# EAGLE library part MT47H32M16HR (library SamacSys_Parts)
INTEGRATED SILICON SOLUTION (ISSI) - IS43DR16320E-25DBLI - DRAM, 32M X 16BIT, BGA-84 Source: Datasheet <https://componentsearchengine.com/Datasheets/1/IS43DR16320E-25DBLI.pdf>
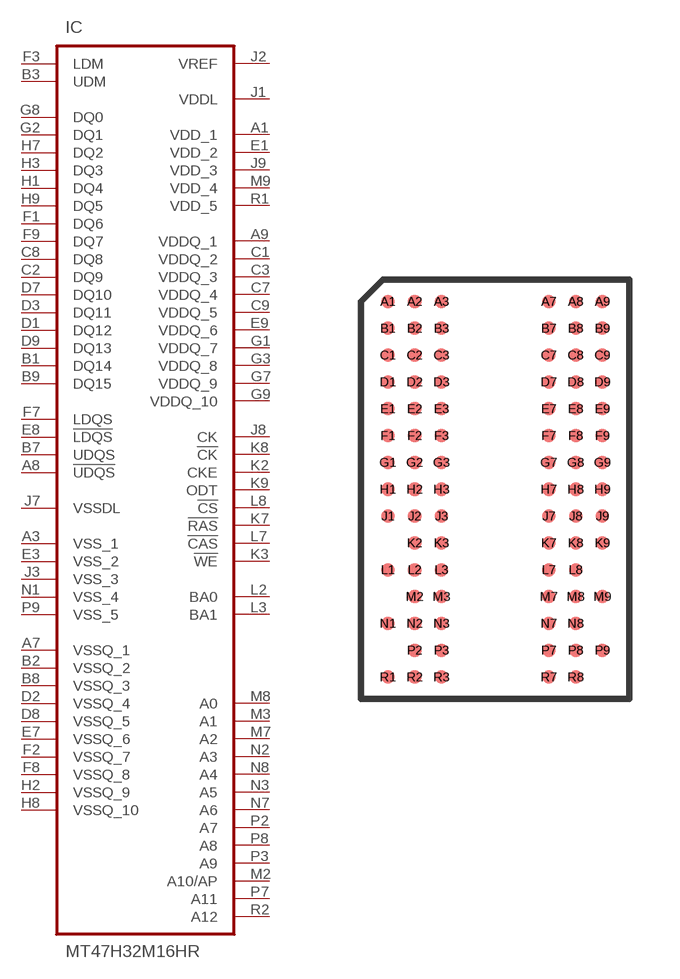
[diagram p3: symbol with the pads of BGA84C80P9X15_800X1250X120; footprint BGA84C80P9X15_800X1250X120]

Designator prefix IC

## MT47H32M16HR (DESCRIPTION: INTEGRATED SILICON SOLUTION (ISSI) - IS43DR16320E-25DBLI - DRAM, 32M X 16BIT, BGA-84; HEIGHT: 1.2mm; MANUFACTURER_NAME: Integrated Silicon Solution Inc.; MANUFACTURER_PART_NUMBER: IS43DR16320E-25DBLI; MOUSER_PART_NUMBER: 870-43DR16320E25DBLI; MOUSER_PRICE-STOCK: https://www.mouser.com/Search/Refine.aspx?Keyword=870-43DR16320E25DBLI)  [BGA84C80P9X15_800X1250X120]
A1  VDD_1
A3  VSS_1
A7  VSSQ_1
A8  !UDQS
A9  VDDQ_1
B1  DQ14
B2  VSSQ_2
B3  UDM
B7  UDQS
B8  VSSQ_3
B9  DQ15
C1  VDDQ_2
C2  DQ9
C3  VDDQ_3
C7  VDDQ_4
C8  DQ8
C9  VDDQ_5
D1  DQ12
D2  VSSQ_4
D3  DQ11
D7  DQ10
D8  VSSQ_5
D9  DQ13
E1  VDD_2
E3  VSS_2
E7  VSSQ_6
E8  !LDQS
E9  VDDQ_6
F1  DQ6
F2  VSSQ_7
F3  LDM
F7  LDQS
F8  VSSQ_8
F9  DQ7
G1  VDDQ_7
G2  DQ1
G3  VDDQ_8
G7  VDDQ_9
G8  DQ0
G9  VDDQ_10
H1  DQ4
H2  VSSQ_9
H3  DQ3
H7  DQ2
H8  VSSQ_10
H9  DQ5
J1  VDDL
J2  VREF
J3  VSS_3
J7  VSSDL
J8  CK
J9  VDD_3
K2  CKE
K3  !WE
K7  !RAS
K8  !CK
K9  ODT
L2  BA0
L3  BA1
L7  !CAS
L8  !CS
M2  A10/AP
M3  A1
M7  A2
M8  A0
M9  VDD_4
N1  VSS_4
N2  A3
N3  A5
N7  A6
N8  A4
P2  A7
P3  A9
P7  A11
P8  A8
P9  VSS_5
R1  VDD_5
R2  A12

## Footprint BGA84C80P9X15_800X1250X120 (pad centres in mm)
BGA-84
smd 0.41 x 0.41: A1 -3.2,5.6; A2 -2.4,5.6; A3 -1.6,5.6; A7 1.6,5.6; A8 2.4,5.6; A9 3.2,5.6; B1 -3.2,4.8; B2 -2.4,4.8; B3 -1.6,4.8; B7 1.6,4.8; B8 2.4,4.8; B9 3.2,4.8; C1 -3.2,4; C2 -2.4,4; C3 -1.6,4; C7 1.6,4; C8 2.4,4; C9 3.2,4; D1 -3.2,3.2; D2 -2.4,3.2; D3 -1.6,3.2; D7 1.6,3.2; D8 2.4,3.2; D9 3.2,3.2; E1 -3.2,2.4; E2 -2.4,2.4; E3 -1.6,2.4; E7 1.6,2.4; E8 2.4,2.4; E9 3.2,2.4; F1 -3.2,1.6; F2 -2.4,1.6; F3 -1.6,1.6; F7 1.6,1.6; F8 2.4,1.6; F9 3.2,1.6; G1 -3.2,0.8; G2 -2.4,0.8; G3 -1.6,0.8; G7 1.6,0.8; G8 2.4,0.8; G9 3.2,0.8; H1 -3.2,0; H2 -2.4,0; H3 -1.6,0; H7 1.6,0; H8 2.4,0; H9 3.2,0; J1 -3.2,-0.8; J2 -2.4,-0.8; J3 -1.6,-0.8; J7 1.6,-0.8; J8 2.4,-0.8; J9 3.2,-0.8; K2 -2.4,-1.6; K3 -1.6,-1.6; K7 1.6,-1.6; K8 2.4,-1.6; K9 3.2,-1.6; L1 -3.2,-2.4; L2 -2.4,-2.4; L3 -1.6,-2.4; L7 1.6,-2.4; L8 2.4,-2.4; M2 -2.4,-3.2; M3 -1.6,-3.2; M7 1.6,-3.2; M8 2.4,-3.2; M9 3.2,-3.2; N1 -3.2,-4; N2 -2.4,-4; N3 -1.6,-4; N7 1.6,-4; N8 2.4,-4; P2 -2.4,-4.8; P3 -1.6,-4.8; P7 1.6,-4.8; P8 2.4,-4.8; P9 3.2,-4.8; R1 -3.2,-5.6; R2 -2.4,-5.6; R3 -1.6,-5.6; R7 1.6,-5.6; R8 2.4,-5.6